# EAGLE library part MC74HCT14ADR2G-Q (library MC74HCT14ADR2G-Q)
In Compliance with the Requirements Defined by JEDEC Standard No. 7A; TTL/NMOS-Compatible Input Levels; Chip Complexity: 72 FETs or 18 Equivalent Gates; Operating Voltage Range: 4.5 to 5.5 V; Output Drive Capability: 10 LSTTL Loads; Outputs Directly Interface to CMOS, NMOS and TTL; Low Input Current: 1.0 mA; Pb-Free Packages are Available Source: Datasheet <https://www.onsemi.com/pub/Collateral/MC74HC14A-D.PDF>
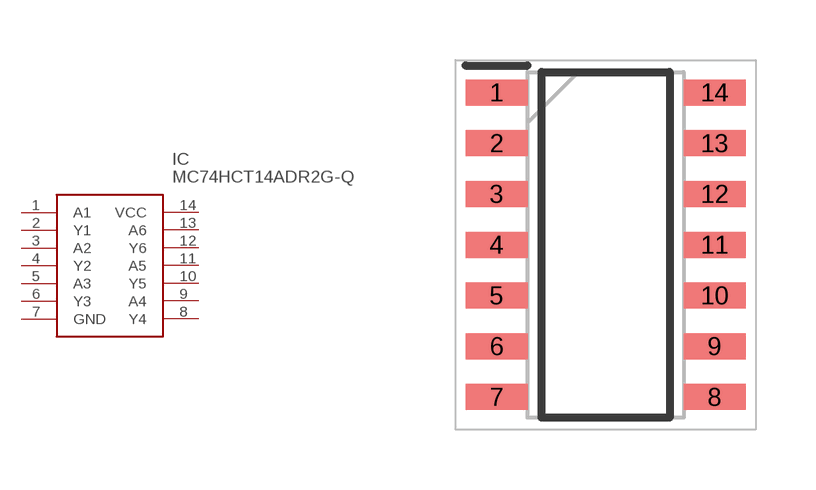
[diagram p0: symbol with the pads of SOIC127P600X175-14N; footprint SOIC127P600X175-14N]

Designator prefix IC

## MC74HCT14ADR2G-Q (Description: In Compliance with the Requirements Defined by JEDEC Standard No. 7A; TTL/NMOS-Compatible Input Levels; Chip Complexity: 72 FETs or 18 Equivalent Gates; Operating Voltage Range: 4.5 to 5.5 V; Output Drive Capability: 10 LSTTL Loads; Outputs Directly Interface to CMOS, NMOS and TTL; Low Input Current: 1.0 mA; Pb-Free Packages are Available; Height: 1.75mm; Manufacturer_Name: onsemi; Manufacturer_Part_Number: MC74HCT14ADR2G-Q)  [SOIC127P600X175-14N]
1  A1
2  Y1
3  A2
4  Y2
5  A3
6  Y3
7  GND
8  Y4
9  A4
10  Y5
11  A5
12  Y6
13  A6
14  VCC

## Footprint SOIC127P600X175-14N (pad centres in mm)
SOIC-14 NB CASE751A-03 ISSUE L
smd 1.55 x 0.65: 1 -2.725,3.81; 2 -2.725,2.54; 3 -2.725,1.27; 4 -2.725,0; 5 -2.725,-1.27; 6 -2.725,-2.54; 7 -2.725,-3.81; 8 2.725,-3.81; 9 2.725,-2.54; 10 2.725,-1.27; 11 2.725,0; 12 2.725,1.27; 13 2.725,2.54; 14 2.725,3.81